# EAGLE library part RFID (library radames)
RFID Innovations
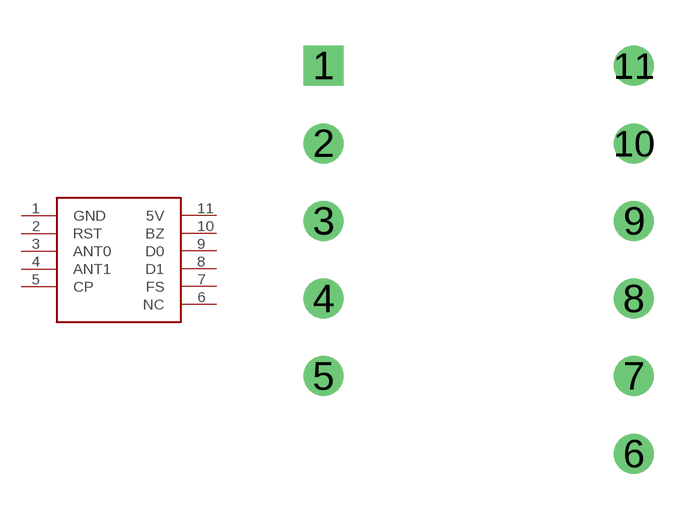
[diagram p0: symbol with the pads of RFID; footprint RFID]

Designator prefix IC

## RFID  [RFID]
1  GND
2  RST
3  ANT0
4  ANT1
5  CP
6  NC
7  FS
8  D1
9  D0
10  BZ
11  5V

## Footprint RFID (pad centres in mm)
drill 0.8 square: 1 -5.08,3.81
drill 0.8: 2 -5.08,1.27; 3 -5.08,-1.27; 4 -5.08,-3.81; 5 -5.08,-6.35; 6 5.08,-8.89; 7 5.08,-6.35; 8 5.08,-3.81; 9 5.08,-1.27; 10 5.08,1.27; 11 5.08,3.81